# EAGLE library part AD8608ARZ (library AD8608ARZ)
Precision Amplifiers Low Noise CMOS RRIO Prec Quad Source: Datasheet <https://componentsearchengine.com/Datasheets/1/AD8608ARZ.pdf>
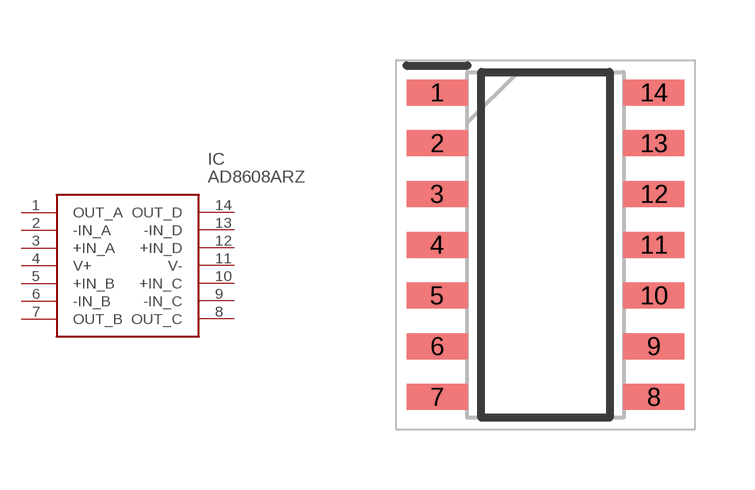
[diagram p0: symbol with the pads of SOIC127P600X175-14N; footprint SOIC127P600X175-14N]

Designator prefix IC

## AD8608ARZ (Description: Precision Amplifiers Low Noise CMOS RRIO Prec Quad; Height: 1.75mm; Manufacturer_Name: Analog Devices; Manufacturer_Part_Number: AD8608ARZ; Mouser_Part_Number: 584-AD8608ARZ; Mouser_Price-Stock: https://www.mouser.co.uk/ProductDetail/Analog-Devices/AD8608ARZ?qs=%2FtpEQrCGXCxN7b5tuN73yg%3D%3D)  [SOIC127P600X175-14N]
1  OUT_A  out
2  -IN_A  in
3  +IN_A  in
4  V+  pwr
5  +IN_B  in
6  -IN_B  in
7  OUT_B  out
8  OUT_C  out
9  -IN_C  in
10  +IN_C  in
11  V-  pwr
12  +IN_D  in
13  -IN_D  in
14  OUT_D  out

## Footprint SOIC127P600X175-14N (pad centres in mm)
14-pin SOIC_N
smd 1.525 x 0.65: 1 -2.712,3.81; 2 -2.712,2.54; 3 -2.712,1.27; 4 -2.712,0; 5 -2.712,-1.27; 6 -2.712,-2.54; 7 -2.712,-3.81; 8 2.712,-3.81; 9 2.712,-2.54; 10 2.712,-1.27; 11 2.712,0; 12 2.712,1.27; 13 2.712,2.54; 14 2.712,3.81